# Altium schematic symbol library PPSchlib.SchLib: 5 symbols
Pins are listed as number, name and electrical type; pins without a type are passive.

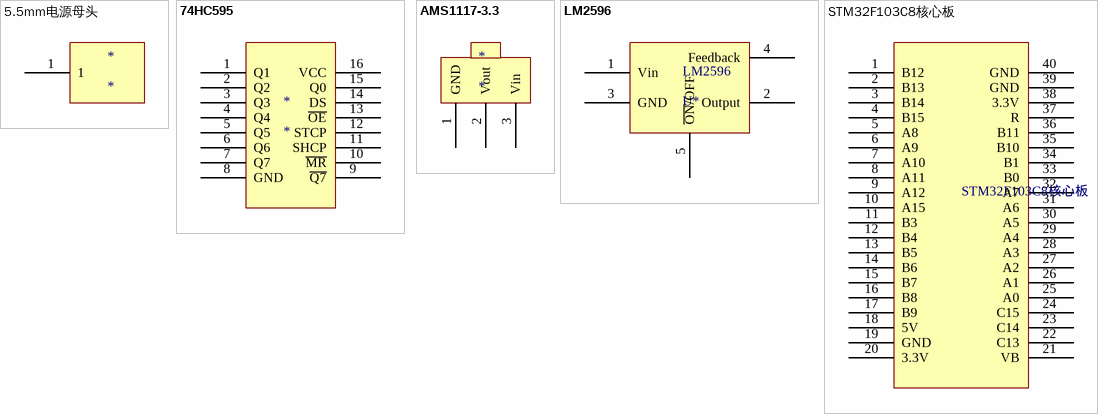
[diagram p0: symbols 5.5mm电源母头 to STM32F103C8核心板]

## 5.5mm电源母头
designator *
pins: 1

## 74HC595
designator *
footprint dip16
pins: 1 Q1, 2 Q2, 3 Q3, 4 Q4, 5 Q5, 6 Q6, 7 Q7, 8 GND, 9 ~{Q7}, 10 ~{MR}, 11 SHCP, 12 STCP, 13 ~{OE}, 14 DS, 15 Q0, 16 VCC

## AMS1117-3.3
designator *
footprint SOT223_N (Footprint not found)
pins: 1 GND, 2 Vout, 3 Vin, 4 gnd hidden

## LM2596
designator LM2596, comment U*
LM2596-5.0
footprint TO-263-5
pins: 1 Vin, 2 Output, 3 GND, 4 Feedback, 5 ~{ON}/OFF

## STM32F103C8核心板
designator STM32F103C8核心板  (value not drawn)
STM32F103C8核心板
footprint STM32F103C8T6
pins: 1 B12, 2 B13, 3 B14, 4 B15, 5 A8, 6 A9, 7 A10, 8 A11, 9 A12, 10 A15, 11 B3, 12 B4, 13 B5, 14 B6, 15 B7, 16 B8, 17 B9, 18 5V, 19 GND, 20 3.3V, 21 VB, 22 C13, 23 C14, 24 C15, 25 A0, 26 A1, 27 A2, 28 A3, 29 A4, 30 A5, 31 A6, 32 A7, 33 B0, 34 B1, 35 B10, 36 B11, 37 R, 38 3.3V, 39 GND, 40 GND